# EAGLE library part 24C* (library misc)
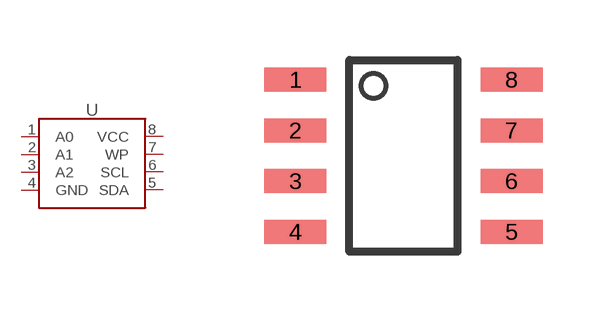
[diagram p18: symbol with the pads of SOIC8; footprint SOIC8]

Designator prefix -

## 24C-SO8 (MANF: Atmel; MANF#: AT24C64)  [SOIC8]
1  A0  in
2  A1  in
3  A2  in
4  GND  pas
5  SDA  hiz
6  SCL  in
7  WP  in
8  VCC  pas

## Footprint SOIC8 (pad centres in mm)
https://www.ti.com/lit/ds/snvsaq5a/snvsaq5a.pdf?ts=1602424164509
smd 1.55 x 0.6: 1 -2.7,1.905; 2 -2.7,0.635; 3 -2.7,-0.635; 4 -2.7,-1.905; 5 2.7,-1.905; 6 2.7,-0.635; 7 2.7,0.635; 8 2.7,1.905